# EAGLE library part T1-1T (library FM_transmitter)
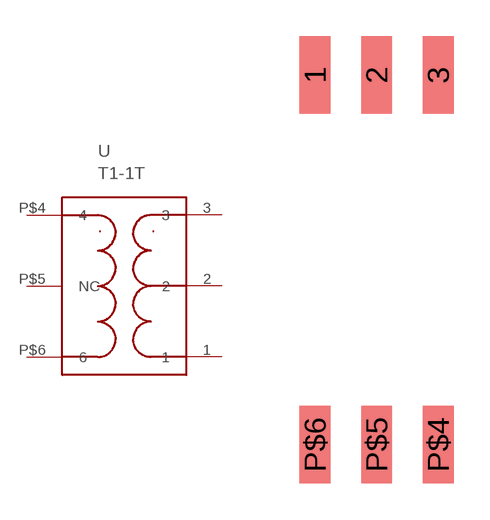
[diagram p13: symbol with the pads of T1-1T; footprint T1-1T]

Designator prefix -

## T1-1T  [T1-1T]
1  1
2  2
3  3
P$4  4
P$5  NC
P$6  6

## Footprint T1-1T (pad centres in mm)
smd 1.27 x 3.18: 1 -2.54,7.62; 2 0,7.62; 3 2.54,7.62; P$4 2.54,-7.62; P$5 0,-7.62; P$6 -2.54,-7.62